# Altium footprint library my_components.PcbLib: 27 footprints (part 1 of 2)
Each footprint in its own frame and in the unit in brackets; x right, y up, seen from the top. Pads: shape width x height; smd on the part's side, far side on the other; paste and mask are expansions set on the pad; w line width, h text height; cw(c..) or ccw(c..) is an arc to the next point about the centre after c.
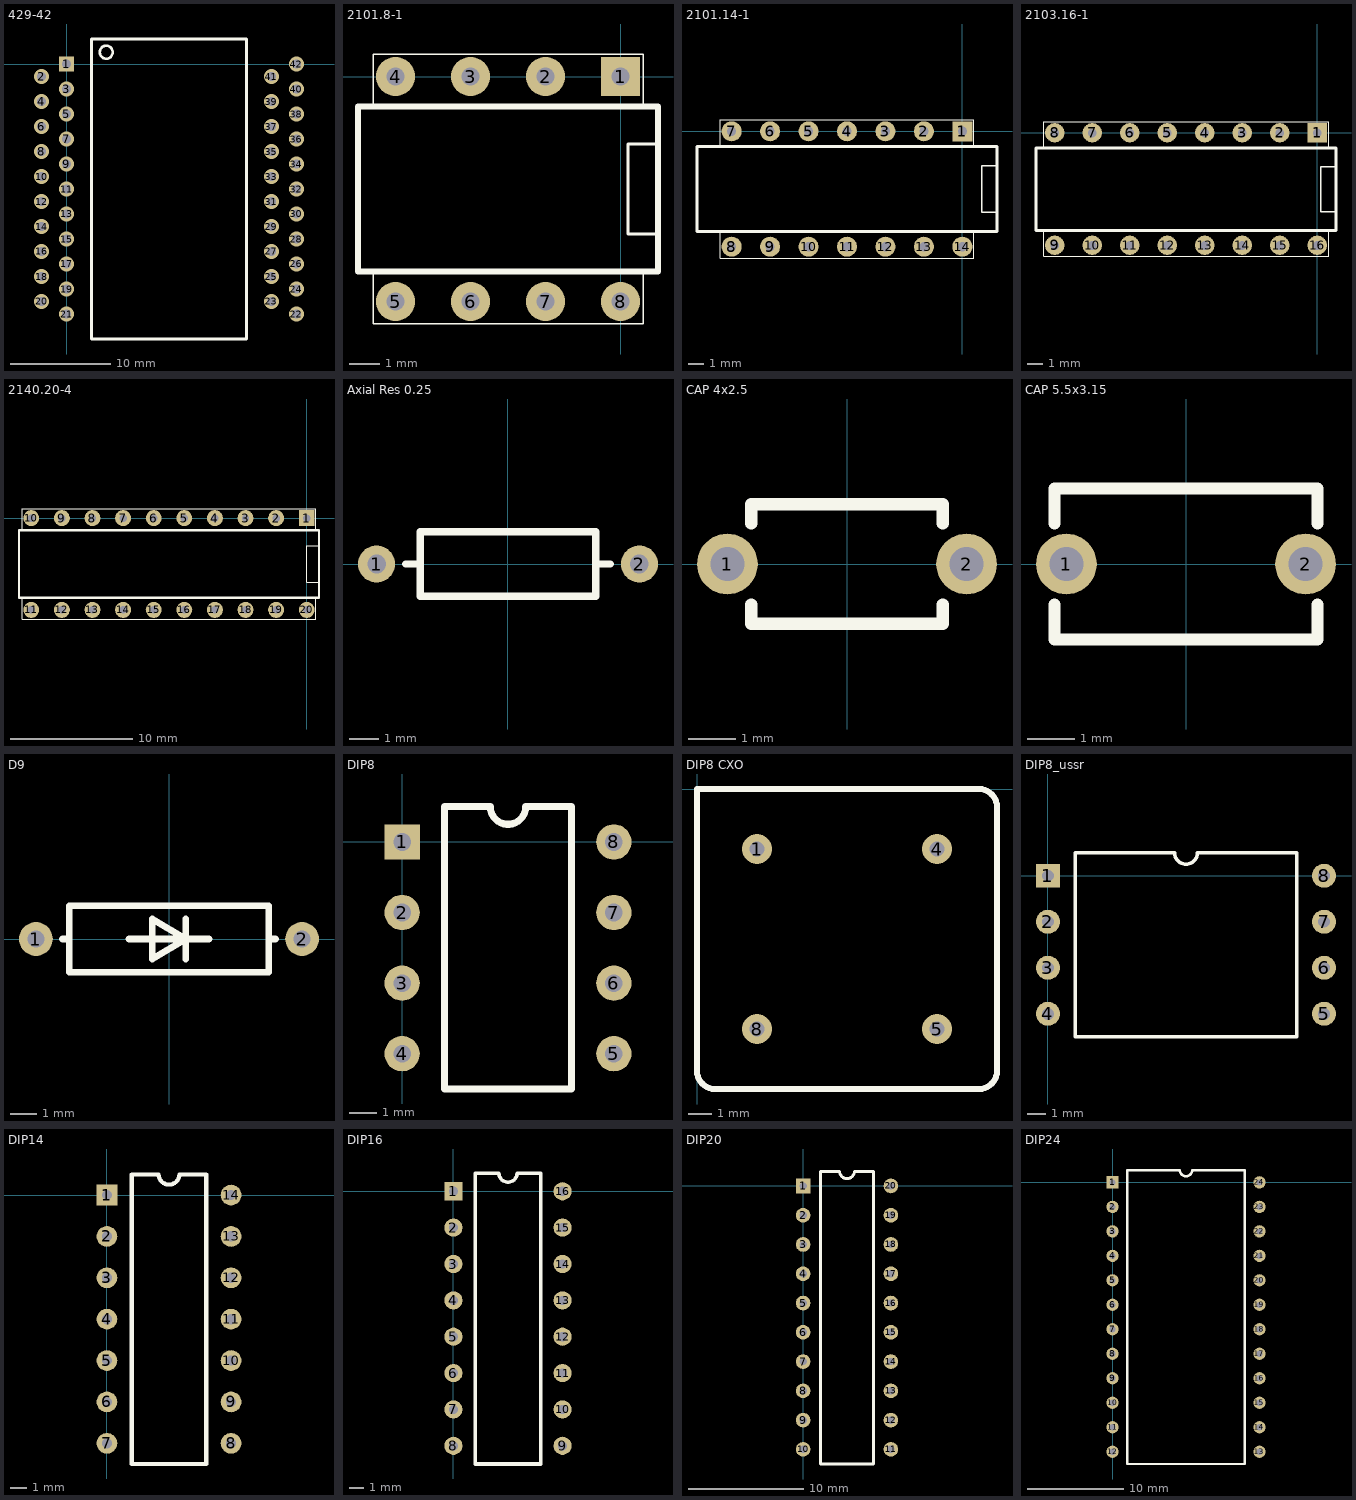
[diagram p0: the footprints below, top view; thin cyan lines are the x and y axes]

## 429-42 [mil]
pads (42):
  rect 60x60 hole 36: 1(0,0)
  round 60 hole 36: 2(-98.43,-49.21) 3(0,-98.43) 4(-98.43,-147.64) 5(0,-196.85) 6(-98.43,-246.06) 7(0,-295.28) 8(-98.43,-344.49) 9(0,-393.7) 10(-98.43,-442.91) 11(0,-492.13) 12(-98.43,-541.34) 13(0,-590.55) 14(-98.43,-639.76) 15(0,-688.98) 16(-98.43,-738.19) 17(0,-787.4) 18(-98.43,-836.61) 19(0,-885.83) 20(-98.43,-935.04) 21(0,-984.25) 22(905.51,-984.25) 23(807.09,-935.04) 24(905.51,-885.83) 25(807.09,-836.61) 26(905.51,-787.4) 27(807.09,-738.19) 28(905.51,-688.98) 29(807.09,-639.76) 30(905.51,-590.55) 31(807.09,-541.34) 32(905.51,-492.13) 33(807.09,-442.91) 34(905.51,-393.7) 35(807.09,-344.49) 36(905.51,-295.28) 37(807.09,-246.06) 38(905.51,-196.85) 39(807.09,-147.64) 40(905.51,-98.43) 41(807.09,-49.21) 42(905.51,0)
Top Overlay:
  circle w10: c156.69,46.46 r25.59
  lines w10: 98.43,-1082.68 708.66,-1082.68 708.66,98.43 98.43,98.43 98.43,-1082.68

## 2101.8-1 [mm]
pads (8):
  rect 1.3x1.3 hole 0.6: 1(0,0)
  round 1.3 hole 0.6: 2(-2.5,0) 3(-5,0) 4(-7.5,0) 5(-7.5,-7.5) 6(-5,-7.5) 7(-2.5,-7.5) 8(0,-7.5)
Top Overlay:
  lines w0.05: -8.25,-6.5 -8.25,-8.25 0.75,-8.25 0.75,-6.5 ; -8.25,-1 -8.25,0.75 0.75,0.75 0.75,-1
  lines w0.1: 1.25,-5.25 0.25,-5.25 0.25,-2.25 1.25,-2.25
  lines w0.2: -8.75,-6.5 1.25,-6.5 1.25,-1 -8.75,-1 -8.75,-6.5

## 2101.14-1 [mm]
pads (14):
  rect 1.3x1.3 hole 0.6: 1(0,0)
  round 1.3 hole 0.6: 2(-2.5,0) 3(-5,0) 4(-7.5,0) 5(-10,0) 6(-12.5,0) 7(-15,0) 8(-15,-7.5) 9(-12.5,-7.5) 10(-10,-7.5) 11(-7.5,-7.5) 12(-5,-7.5) 13(-2.5,-7.5) 14(0,-7.5)
Top Overlay:
  lines w0.05: -15.75,-6.5 -15.75,-8.25 0.75,-8.25 0.75,-6.5 ; -15.75,-1 -15.75,0.75 0.75,0.75 0.75,-1
  lines w0.1: 2.25,-5.25 1.25,-5.25 1.25,-2.25 2.25,-2.25
  lines w0.2: -17.25,-6.5 2.25,-6.5 2.25,-1 -17.25,-1 -17.25,-6.5

## 2103.16-1 [mm]
pads (16):
  rect 1.3x1.3 hole 0.6: 1(0,0)
  round 1.3 hole 0.6: 2(-2.5,0) 3(-5,0) 4(-7.5,0) 5(-10,0) 6(-12.5,0) 7(-15,0) 8(-17.5,0) 9(-17.5,-7.5) 10(-15,-7.5) 11(-12.5,-7.5) 12(-10,-7.5) 13(-7.5,-7.5) 14(-5,-7.5) 15(-2.5,-7.5) 16(0,-7.5)
Top Overlay:
  lines w0.05: -18.25,-6.5 -18.25,-8.25 0.75,-8.25 0.75,-6.5 ; -18.25,-1 -18.25,0.75 0.75,0.75 0.75,-1
  lines w0.1: 1.25,-5.25 0.25,-5.25 0.25,-2.25 1.25,-2.25
  lines w0.2: -18.75,-6.5 1.25,-6.5 1.25,-1 -18.75,-1 -18.75,-6.5

## 2140.20-4 [mm]
pads (20):
  rect 1.3x1.3 hole 0.6: 1(0,0)
  round 1.3 hole 0.6: 2(-2.5,0) 3(-5,0) 4(-7.5,0) 5(-10,0) 6(-12.5,0) 7(-15,0) 8(-17.5,0) 9(-20,0) 10(-22.5,0) 11(-22.5,-7.5) 12(-20,-7.5) 13(-17.5,-7.5) 14(-15,-7.5) 15(-12.5,-7.5) 16(-10,-7.5) 17(-7.5,-7.5) 18(-5,-7.5) 19(-2.5,-7.5) 20(0,-7.5)
Top Overlay:
  lines w0.05: -23.25,-6.5 -23.25,-8.25 0.75,-8.25 0.75,-6.5 ; -23.25,-1 -23.25,0.75 0.75,0.75 0.75,-1
  lines w0.1: 1,-5.25 0,-5.25 0,-2.25 1,-2.25
  lines w0.2: -23.5,-6.5 -23.5,-1 1,-1 1,-6.5 -23.5,-6.5

## Axial Res 0.25 [mm]
pads (2):
  round 1.27 hole 0.635: 1(-4.5,0) 2(4.5,0)
Top Overlay:
  lines w0.254: -3.5,0 -3,0 ; 3,0 3.5,0 ; -3,-1.1 3,-1.1 3,1.1 -3,1.1 -3,-1.1
3D body "Resistor P 9mm.STEP": height 2.57, standoff -3.12, extent -4.7,-1.2 4.7,1.18

## CAP 4x2.5 [mil]
pads (2):
  round 50 hole 28: 1(-98.43,0) 2(98.43,0)
Top Overlay:
  lines w10: -78.74,-33.46 -78.74,-49.21 78.74,-49.21 78.74,-33.46 ; -78.74,33.46 -78.74,49.21 78.74,49.21 78.74,33.46
3D body "User Library-Ceramic Capacitors(RDER71H104K0K1H03B).STEP": height 228.35, standoff -86.61, extent -108.26,-49.21 108.28,49.22

## CAP 5.5x3.15 [mil]
pads (2):
  round 50 hole 28: 1(-98.43,0) 2(98.43,0)
Top Overlay:
  lines w10: -108.27,-33.46 -108.27,-62.01 108.27,-62.01 108.27,-33.46 ; -108.27,33.46 -108.27,62.01 108.27,62.01 108.27,33.46
3D body "User Library-Ceramic Capacitors(RDER73A102K2M1H03A)-1.STEP": height 238.19, standoff -76.77, extent -108.26,-62 108.28,62.01

## D9 [mm]
pads (2):
  round 1.27 hole 0.635: 1(-5,0) 2(5,0)
Top Overlay:
  lines w0.254: -4,0 -3.75,0 ; -1.5,0 1.5,0 ; 0.625,-0.75 0.625,0.75 ; 3.75,0 4,0 ; -3.75,-1.25 3.75,-1.25 3.75,1.25 -3.75,1.25 -3.75,-1.25 ; -0.625,-0.75 -0.625,0.75 0.625,0 -0.625,-0.75
3D body "User Library-do_35.STEP": height 2.15, standoff -2.54, extent -5.372,-0.876 5.321,0.876

## DIP8 [mil]
pads (8):
  rect 50x50 hole 25: 1(0,0)
  round 50 hole 25: 2(0,-100) 3(0,-200) 4(0,-300) 5(300,-300) 6(300,-200) 7(300,-100) 8(300,0)
Top Overlay:
  lines w10: 60,-350 60,50 125,50 ccw(c150,50) 175,50 240,50 240,-350 60,-350
3D body "DIP8.STEP": height 151.57, standoff -78.74, extent -4.92,-331.09 304.92,31.11

## DIP8 CXO [mil]
height 240
pads (4):
  round 50 hole 25: 1(100,-100) 4(400,-100) 5(400,-400) 8(100,-400)
Top Overlay:
  lines w10: 0,-470 ccw(c30,-470) 30,-500 470,-500 ccw(c470,-470) 500,-470 500,-30 ccw(c470,-30) 470,0 0,0 0,-470
3D body "User Library-OSC_DIP-8.step": height 181.1, standoff -78.74, extent 0,-500 500,0

## DIP8_ussr [mm]
pads (8):
  rect 1.3x1.3 hole 0.65: 1(0,0)
  round 1.3 hole 0.65: 2(0,-2.5) 3(0,-5) 4(0,-7.5) 5(15,-7.5) 6(15,-5) 7(15,-2.5) 8(15,0)
Top Overlay:
  lines w0.2: 1.485,-8.75 13.515,-8.75 13.515,1.25 8.125,1.25 cw(c7.5,1.25) 6.875,1.25 1.485,1.25 1.485,-8.75

## DIP14 [mil]
pads (14):
  rect 50x50 hole 25: 1(0,0)
  round 50 hole 25: 2(0,-100) 3(0,-200) 4(0,-300) 5(0,-400) 6(0,-500) 7(0,-600) 8(300,-600) 9(300,-500) 10(300,-400) 11(300,-300) 12(300,-200) 13(300,-100) 14(300,0)
Top Overlay:
  lines w10: 60,-650 240,-650 240,50 175,50 cw(c150,50) 125,50 60,50 60,-650
3D body "DIL14.stp": height 157.48, standoff -169.29, extent 0,-677.96 300,77.95

## DIP16 [mil]
pads (16):
  rect 50x50 hole 25: 1(0,0)
  round 50 hole 25: 2(0,-100) 3(0,-200) 4(0,-300) 5(0,-400) 6(0,-500) 7(0,-600) 8(0,-700) 9(300,-700) 10(300,-600) 11(300,-500) 12(300,-400) 13(300,-300) 14(300,-200) 15(300,-100) 16(300,0)
Top Overlay:
  lines w10: 60,-750 240,-750 240,50 175,50 cw(c150,50) 125,50 60,50 60,-750
3D body "DIP762W46P254L2007H533Q16P_JEDEC_MS-001AB.STEP": height 210, standoff -130, extent -4.99,-744.99 305,45

## DIP20 [mil]
pads (20):
  rect 50x50 hole 25: 1(0,0)
  round 50 hole 25: 2(0,-100) 3(0,-200) 4(0,-300) 5(0,-400) 6(0,-500) 7(0,-600) 8(0,-700) 9(0,-800) 10(0,-900) 11(300,-900) 12(300,-800) 13(300,-700) 14(300,-600) 15(300,-500) 16(300,-400) 17(300,-300) 18(300,-200) 19(300,-100) 20(300,0)
Top Overlay:
  lines w10: 60,-950 60,50 125,50 ccw(c150,50) 175,50 240,50 240,-950 60,-950
3D body "DIP762W46P254L2616H533Q20P_JEDEC_MS-001AD.STEP": height 210, standoff -130, extent -4.99,-964.99 305,65

## DIP24 [mil]
pads (24):
  rect 50x50 hole 25: 1(0,0)
  round 50 hole 25: 2(0,-100) 3(0,-200) 4(0,-300) 5(0,-400) 6(0,-500) 7(0,-600) 8(0,-700) 9(0,-800) 10(0,-900) 11(0,-1000) 12(0,-1100) 13(600,-1100) 14(600,-1000) 15(600,-900) 16(600,-800) 17(600,-700) 18(600,-600) 19(600,-500) 20(600,-400) 21(600,-300) 22(600,-200) 23(600,-100) 24(600,0)
Top Overlay:
  lines w10: 60,-1150 540,-1150 540,50 325,50 cw(c300,50) 275,50 60,50 60,-1150
3D body "DIP1524W46P254L3226H508Q24P_JEDEC_MS-011AA_DIP_24_.600.STEP": height 200, standoff -130, extent -4.99,-1184.99 605,85